# Altium footprint library PcbLib1.PcbLib: 19 footprints (part 2 of 2)
Each footprint in its own frame and in the unit in brackets; x right, y up, seen from the top. Pads: shape width x height; smd on the part's side, far side on the other; paste and mask are expansions set on the pad; w line width, h text height; cw(c..) or ccw(c..) is an arc to the next point about the centre after c.
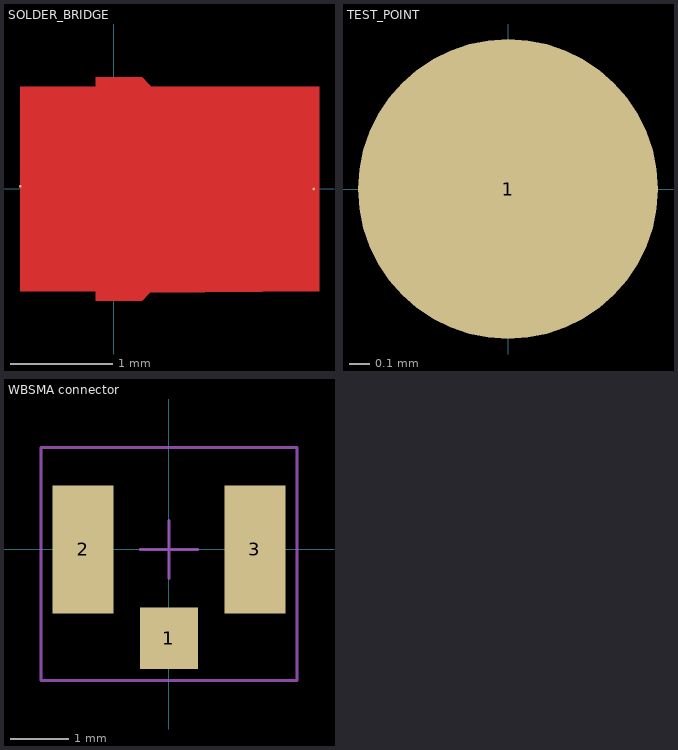
[diagram p1: the footprints below, top view; thin cyan lines are the x and y axes]

## SOLDER_BRIDGE [mil]
pads (2):
  round 1 smd mask+1.97: 1(-36,1) 2(77,0)
Top Layer:
  pour cut-out: -7,42.98 -7,-43 11,-43 50.85,0.04 11,42.98
  region: 79,39.37 79,-39.42 13,-40 50,0 13,39.37
  region: -36,-39.37 -36,39.37 -6.97,39.37 28.46,0 -6.97,-39.37

## TEST_POINT [mm]
pads (1):
  round 1.5 smd: 1(0,0)

## WBSMA connector [mm] "From Wurth"
pads (3):
  rect 1x1.05 smd: 1(0.006,-1.526)
  rect 1.05x2.2 smd: 2(-1.469,-0.001) 3(1.481,-0.001)
Top Courtyard:
  lines w0.05: -0.494,-0.001 0.506,-0.001 ; 0.006,-0.501 0.006,0.499 ; -2.194,-2.251 2.206,-2.251 2.206,1.75 -2.194,1.75 -2.194,-2.251
Top Designator:
  text ".Designator" at -2.914,1270.346 h0.58